# Altium schematic symbol library 0468001.NR.SchLib: 1 symbol
Pins are listed as number, name and electrical type; pins without a type are passive.

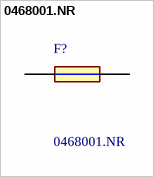
[diagram p0: symbol 0468001.NR]

## 0468001.NR
designator F?
Surface Mount Fuses 1A Slo-Blo; Manufacturer_Name: LITTELFUSE; Geometry.Height: 0.762mm; Mouser Part Number: 576-0468001.NR; Mouser Price/Stock: https://www.mouser.co.uk/ProductDetail/Littelfuse/0468001.NR?qs=ar9f0rk5DXBYH1VlQUX7jA%3D%3D; Manufacturer_Part_Number: 0468001.NR; Datasheet Link: https://www.littelfuse.com/~/media/electronics/datasheets/fuses/littelfuse_fuse_468_datasheet.pdf.pdf
footprint FUSC3215X76N
pins: 1, 2